# Altium schematic symbol library 6N138-SMD8P.Schlib: 1 symbol
Pins are listed as number, name and electrical type; pins without a type are passive.

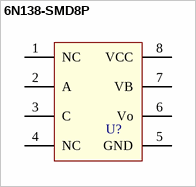
[diagram p0: symbol 6N138-SMD8P]

## 6N138-SMD8P
designator U?  (value not drawn)
pins: 1 NC, 2 A, 3 C, 4 NC, 5 GND, 6 Vo, 7 VB, 8 VCC